# Altium schematic symbol library sch.SchLib: 60 symbols
Pins are listed as number, name and electrical type; pins without a type are passive.

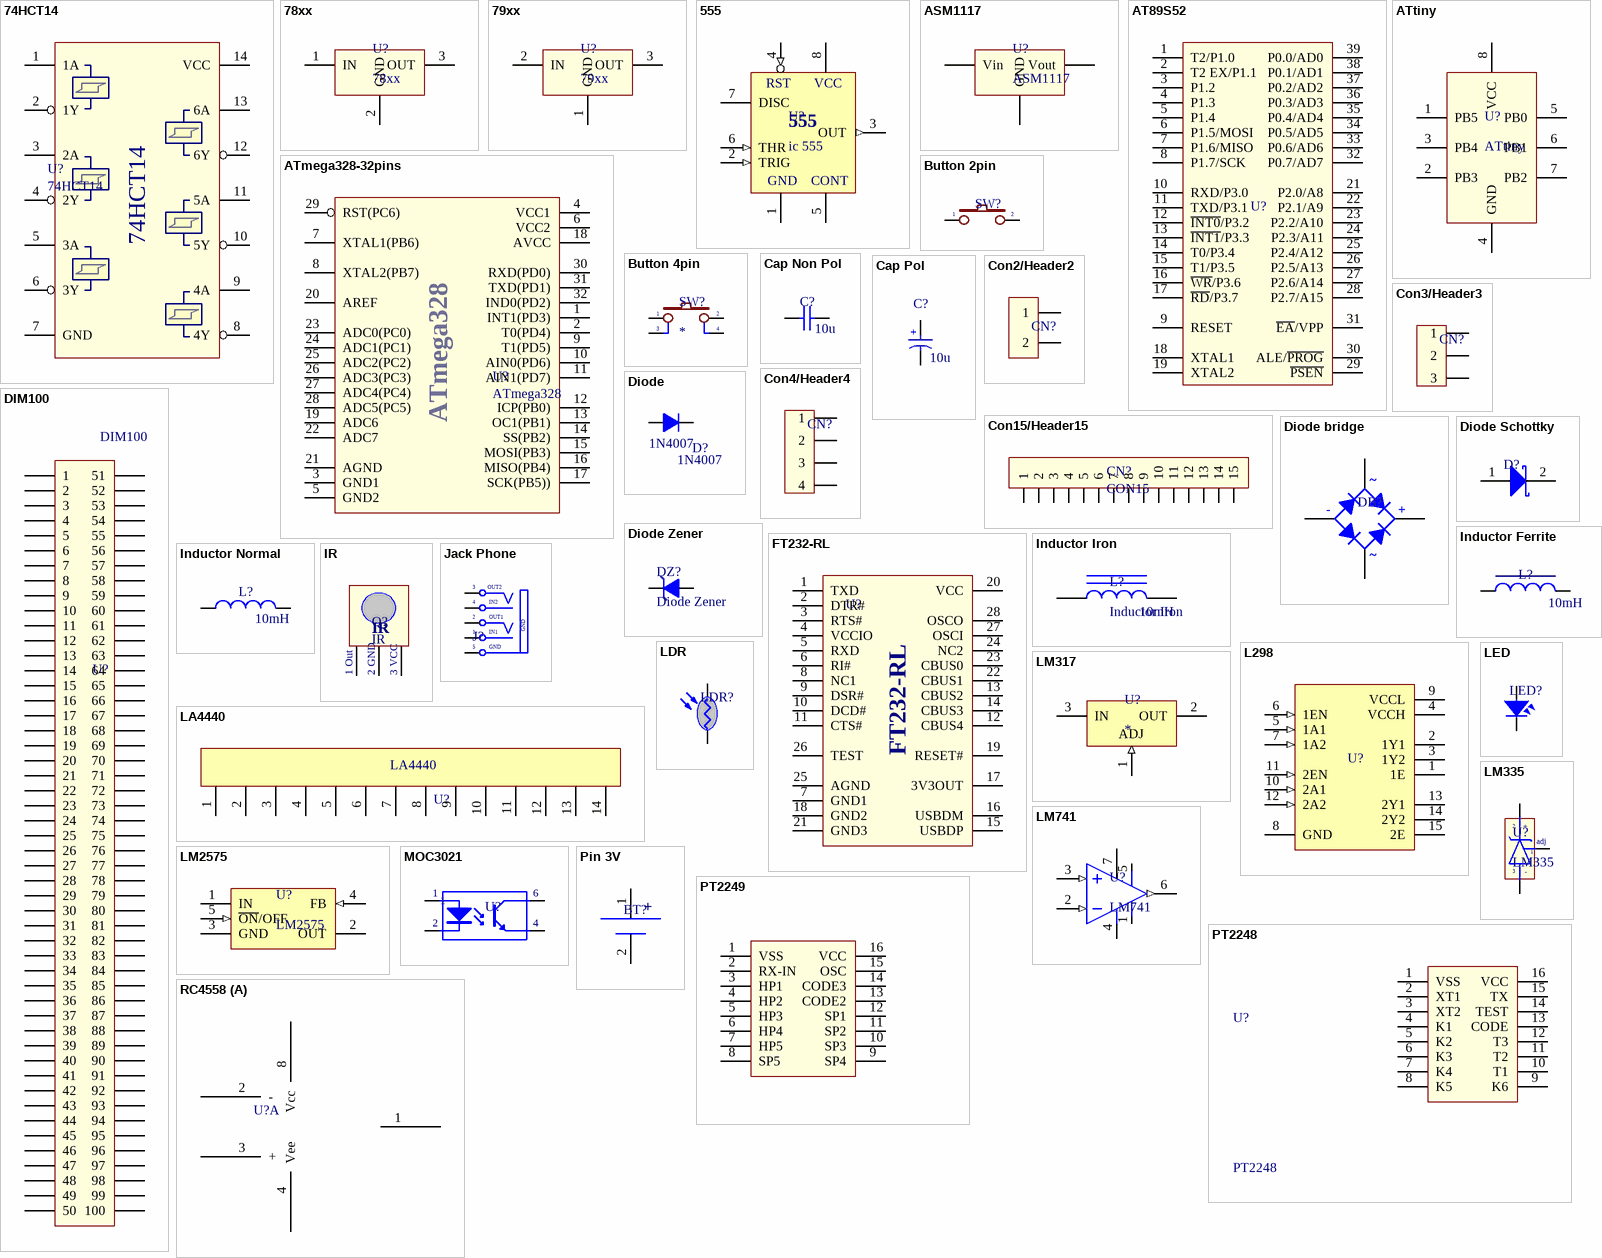
[diagram p0: symbols 74HCT14 to RC4558]

## 74HCT14
designator U?
Hex Inverting Schmitt Trigger
pins: 1 1A, 2 1Y, 3 2A, 4 2Y, 5 3A, 6 3Y, 7 GND, 8 4Y, 9 4A, 10 5Y, 11 5A, 12 6Y, 13 6A, 14 VCC

## 78xx
designator U?
LM78xx, on ap +
footprint QTO-220 (TO-220 - 1-2-3)
footprint QTO-220H3 (TO-220 1-2-3)
footprint QTO-220NH (TO-220 - 1-2-3)
footprint QTO-220H2 (TO-220 - 1-2-3)
footprint QTO-220H1 (TO-220 - 1-2-3)
footprint SOT-223 (SOT223, 4-Leads, Body 6.50x7.00mm Pitch 2.30mm)
pins: 1 IN, 2 GND, 3 OUT

## 79xx
designator U?
LM79xx, on ap -
footprint QTO-220H3 (TO-220 1-2-3)
footprint QTO-220 (TO-220 - 1-2-3)
footprint QTO-220NH (TO-220 - 1-2-3)
footprint QTO-220H2 (TO-220 - 1-2-3)
footprint QTO-220H1 (TO-220 - 1-2-3)
pins: 1 GND, 2 IN, 3 OUT

## 555
designator U?, comment ic 555
IC555 (DIP8/W0.3)
footprint DIP8/W0.3 (8 PIN, W 300mil, pitch=100mil)
pins: 1 GND (power), 2 TRIG (in), 3 OUT (out), 4 RST (in), 5 CONT, 6 THR (in), 7 DISC (oc), 8 VCC (power)

## ASM1117
designator U?
footprint SOT-223 (SOT223, 4-Leads, Body 6.50x7.00mm Pitch 2.30mm)
pins: 1 GND, 2 Vout, 3 Vin

## AT89S52
designator U?  (value not drawn)
AT89S52, 8kB memory flash, 40 pins
footprint DIP40/W0.6 (40 PIN, W 600mil, Pin to pin 100mil)
pins: 1 T2/P1.0, 2 T2 EX/P1.1, 3 P1.2, 4 P1.3, 5 P1.4, 6 P1.5/MOSI, 7 P1.6/MISO, 8 P1.7/SCK, 9 RESET, 10 RXD/P3.0, 11 TXD/P3.1, 12 ~{INT0}/P3.2, 13 ~{INT1}/P3.3, 14 T0/P3.4, 15 T1/P3.5, 16 ~{WR}/P3.6, 17 ~{RD}/P3.7, 18 XTAL1, 19 XTAL2, 21 P2.0/A8, 22 P2.1/A9, 23 P2.2/A10, 24 P2.3/A11, 25 P2.4/A12, 26 P2.5/A13, 27 P2.6/A14, 28 P2.7/A15, 29 ~{PSEN}, 30 ALE/~{PROG}, 31 ~{EA}/VPP, 32 P0.7/AD7, 33 P0.6/AD6, 34 P0.5/AD5, 35 P0.4/AD4, 36 P0.3/AD3, 37 P0.2/AD2, 38 P0.1/AD1, 39 P0.0/AD0

## ATmega328-32pins
designator U?, comment ATmega328
ATmega328-32PINS
footprint QFP (MS-026ABA) (QFP MS-026 32PINS)
pins: 1 INT1(PD3), 2 T0(PD4), 3 GND1, 4 VCC1, 5 GND2, 6 VCC2, 7 XTAL1(PB6), 8 XTAL2(PB7), 9 T1(PD5), 10 AIN0(PD6), 11 AIN1(PD7), 12 ICP(PB0), 13 OC1(PB1), 14 SS(PB2), 15 MOSI(PB3), 16 MISO(PB4), 17 SCK(PB5)), 18 AVCC, 19 ADC6, 20 AREF, 21 AGND, 22 ADC7, 23 ADC0(PC0), 24 ADC1(PC1), 25 ADC2(PC2), 26 ADC3(PC3), 27 ADC4(PC4), 28 ADC5(PC5), 29 RST(PC6), 30 RXD(PD0), 31 TXD(PD1), 32 IND0(PD2)

## ATtiny
designator U?
ATtiny13/45/85
footprint DIP8/W0.3 (8 PIN, W 300mil, pitch=100mil)
pins: 1 PB5, 2 PB3, 3 PB4, 4 GND, 5 PB0, 6 PB1, 7 PB2, 8 VCC

## Button 2pin
designator SW?  (value not drawn)
footprint Button (nut nhan 2pin)
pins: 1, 2

## Button 4pin
designator SW?
Button 4pin
footprint Button 4pin (nut nhan 4pin)
footprint BUTTON 4PINS SMD (BUTTON 4PINS SMD PITCH=5MM)
pins: 1, 2, 3, 4

## Cap Non Pol
designator C?, comment 10u
Cap Nol Pol; Volt: 16V; Value: 10u
footprint Cap Non Pol 3mm (d=3mm, pitch=0.1in)
footprint Cap Non Pol 5mm (d=5mm, pitch= 0.2in)
footprint Cap Non pol 8mm (d=8mm,pitch=0.3in)
footprint Cap Non Pol 0201
footprint Cap Non Pol 0402
footprint Cap Non Pol 0603
footprint Cap Non Pol 0805
footprint Cap Non Pol 1206
footprint Cap non Pol 1812
pins: 1, 2

## Cap Pol
designator C?, comment 10u
Cap Pol; Volt: 16v; Value: 10u
footprint Cap 10mm (Cap d=10mm, pitch=5mm)
footprint Cap 12mm (Cap d=12mm, pitch=5mm)
footprint Cap 16mm (Cap d=16mm, pitch=7.5mm)
footprint CAP 18mm (Cap pol d=18mm, pitch=7.5mm)
footprint Cap 4mm (Cap d=4mm, pitch=1.5mm)
footprint Cap 5mm (Cap d=5mm, pitch=2mm)
footprint Cap 8mm (Cap d=8mm, pitch=3.5mm)
footprint Cap 6.3mm (Cap d=6.3mm, pitch=2.5mm)
footprint Cap 20mm (Cap pol d=20mm, pitch=10mm)
footprint Cap 22mm (Cap pol d=22mm, pitch=10mm)
footprint Cap 25mm (Cap pol d=25mm, pitch=12.5mm)
pins: 1, 2
text: +

## Con2/Header2
designator CN?  (value not drawn)
CON2
footprint CON2-1 (2PIN THANG)
footprint CON2-2 (CON2 L)
footprint CON2-3 (CON2 BLOCK)
footprint Terminal Block2 (Terminal Blcok 2 position,pitch=5mm)
pins: 1, 2

## Con3/Header3
designator CN?  (value not drawn)
CON3
footprint CON3-1 (CON3 BLOCK)
footprint CON3-2 (CON3 THANG)
footprint CON3-3 (CON3 L)
footprint Terminal block 3 (Terminal block 3 position, pitch=5mm)
pins: 1, 2, 3

## Con4/Header4
designator CN?  (value not drawn)
CON4
footprint Terminal Block 4 (terminal block 4pos,pitch=5mm)
footprint CON4-3 (CON4 L)
footprint CON4-2 (CON4 THANG)
footprint CON4-1 (CON4 pin khuyet)
pins: 1, 2, 3, 4

## Con15/Header15
designator CN?, comment CON15
footprint CON15-1 (CON15 PIN THANG)
pins: 1, 2, 3, 4, 5, 6, 7, 8, 9, 10, 11, 12, 13, 14, 15

## DIM100
designator U?  (value not drawn)
footprint DIM100 (DIM100 (RAM))
pins: 1, 2, 3, 4, 5, 6, 7, 8, 9, 10, 11, 12, 13, 14, 15, 16, 17, 18, 19, 20, 21, 22, 23, 24, 25, 26, 27, 28, 29, 30, 31, 32, 33, 34, 35, 36, 37, 38, 39, 40, 41, 42, 43, 44, 45, 46, 47, 48, 49, 50, 51, 52, 53, 54, 55, 56, 57, 58, 59, 60, 61, 62, 63, 64, 65, 66, 67, 68, 69, 70, 71, 72, 73, 74, 75, 76, 77, 78, 79, 80, 81, 82, 83, 84, 85, 86, 87, 88, 89, 90, 91, 92, 93, 94, 95, 96, 97, 98, 99, 100

## Diode
designator D?, comment 1N4007
Diode; Value: 1N4007
footprint Diode (diode pitch = 450mil)
pins: 1 A, 2 K

## Diode bridge
designator DB?  (value not drawn)
footprint ZIP 4 (25A) (diode brigde 25A)
pins: 1 K, 2 C, 3 C, 4 A
text: ~; -; +

## Diode Schottky
designator D?, comment DIODE SCHOTTKY  (value not drawn)
footprint SOD123 (DIODE SOD123, PITCH=100 MILS)
pins: 1 A, 2 4

## Diode Zener
designator DZ?
footprint Diode zener (diode zener 1A)
pins: 1 A, 2 K

## FT232-RL
designator U?  (value not drawn)
USB to serial UART
footprint SSOP-28
pins: 1 TXD, 2 DTR#, 3 RTS#, 4 VCCIO, 5 RXD, 6 RI#, 7 GND1, 8 NC1, 9 DSR#, 10 DCD#, 11 CTS#, 12 CBUS4, 13 CBUS2, 14 CBUS3, 15 USBDP, 16 USBDM, 17 3V3OUT, 18 GND2, 19 RESET#, 20 VCC, 21 GND3, 22 CBUS1, 23 CBUS0, 24 NC2, 25 AGND, 26 TEST, 27 OSCI, 28 OSCO

## Inductor Ferrite
designator L?  value 10mH  (hidden comment: Inductor Ferrite)
pins: 1, 2

## Inductor Iron
designator L?  value 10mH
Magnetic-Core Inductor
pins: 1, 2

## Inductor Normal
designator L?  value 10mH  (hidden comment: Inductor Normal)
pins: 1, 2

## IR
designator Q?
mat thu hongngoai
footprint IR (mat thu hong ngoai)
pins: 1 Out, 2 GND, 3 VCC
text: 1 Out; 2 GND; 3 VCC

## Jack Phone
designator J?  (value not drawn)
Jac Phone Stereo; Creat by: VanDungEvn@Gmail.com
footprint Jack Phone (Jac Phone Stereo)
pins: 1 S1 (power) "Sleeve (Ground)", 2 S1 "Tip Normal (Break Contact)", 3 TN "Tip Normal (Break Contact)", 4 S (power) "Sleeve (Ground)", 5 GND "Tip"
text: OUT2; IN2; OUT1; IN1

## L298
designator U?  (value not drawn)
L298 CAU H
footprint DIP15SL2 (TO, Thru-Hole, Vertical, Heatsink Mounted; 15 Bent Staggered Leads; Pitch 1.27 mm)
pins: 1 1E, 2 1Y1 (hiz), 3 1Y2 (hiz), 4 VCCH (power), 5 1A1 (in), 6 1EN (in), 7 1A2 (in), 8 GND (power), 9 VCCL (power), 10 2A1 (in), 11 2EN (in), 12 2A2 (in), 13 2Y1 (hiz), 14 2Y2 (hiz), 15 2E

## LA4440
designator U?  (value not drawn)
footprint SIP-14 (SIP-14, pitch = 100mil)
pins: 1, 2, 3, 4, 5, 6, 7, 8, 9, 10, 11, 12, 13, 14

## LDR
designator LDR?  (value not drawn)
Quang Tro
footprint LDR (QUANG TRO)
pins: 1 A, 2 K

## LED
designator LED?  (value not drawn)
footprint LED-3mm 2Colour
footprint LED-3mm White
footprint LED-5mm 2colour
footprint LED-5mm BLUE
footprint LED-5mm Green
footprint LED-5mm RED
footprint LED-5mm WHITE
footprint LED-5mm Yellow
footprint LED-0805-Blue
footprint LED-0805-Green
footprint LED-0805-Orange
footprint LED-0805-Red
footprint LED-0805-Yellow
footprint LED-1206-Blue
footprint LED-1206-Green
footprint LED-1206-Orange
footprint LED-1206-Red
footprint LED-1206-Yellow
pins: 1, 2

## LM317
designator U?
LM317, adj voltage
footprint QTO-220 (TO-220 - 1-2-3)
footprint QTO-220H1 (TO-220 - 1-2-3)
footprint QTO-220H2 (TO-220 - 1-2-3)
footprint QTO-220H3 (TO-220 1-2-3)
pins: 1 ADJ (in), 2 OUT (power), 3 IN (power)

## LM335
designator U?
footprint QTO-92 (TO-92)
pins: 1 adj, 2 +, 3 -

## LM741
designator U?
LM741 (DIP8/W0.3)
footprint DIP8/W0.3 (8 PIN, W 300mil, pitch=100mil)
pins: 1 Vos, 2 IN- (in), 3 IN+ (in), 4 -V, 5 Vos, 6 OUT (out), 7 +V

## LM2575
designator U?
pins: 1 IN (power), 2 OUT (power), 3 GND (power), 4 FB (in), 5 ~{ON}/OFF (in)

## MOC3021
designator U?  (value not drawn)
OPTO TRIAC
footprint DIP6/W0.3 (6 PIN, W 300mil, Pin to pin 100mil)
pins: 1 A "Anode", 2 K "Cathode", 4 E "Emitter", 6 C "Collector"

## Pin 3V
designator BT?, comment BATERY  (value not drawn)
PIN CMOS 3V
footprint CMOS (Khay pin CMOS)
pins: 1 +, 2 -

## PT2248
designator U?
Remote Control Tranmitter; Value: PT2248
footprint DIP16/W0.3 (16 PIN, W=300mil, Pitch=100mil)
pins: 1 VSS, 2 XT1, 3 XT2, 4 K1, 5 K2, 6 K3, 7 K4, 8 K5, 9 K6, 10 T1, 11 T2, 12 T3, 13 CODE, 14 TEST, 15 TX, 16 VCC

## PT2249
designator U?
Remote Control Receiver; Value: PT2249
footprint DIP16/W0.3 (16 PIN, W=300mil, Pitch=100mil)
pins: 1 VSS, 2 RX-IN, 3 HP1, 4 HP2, 5 HP3, 6 HP4, 7 HP5, 8 SP5, 9 SP4, 10 SP3, 11 SP2, 12 SP1, 13 CODE2, 14 CODE3, 15 OSC, 16 VCC

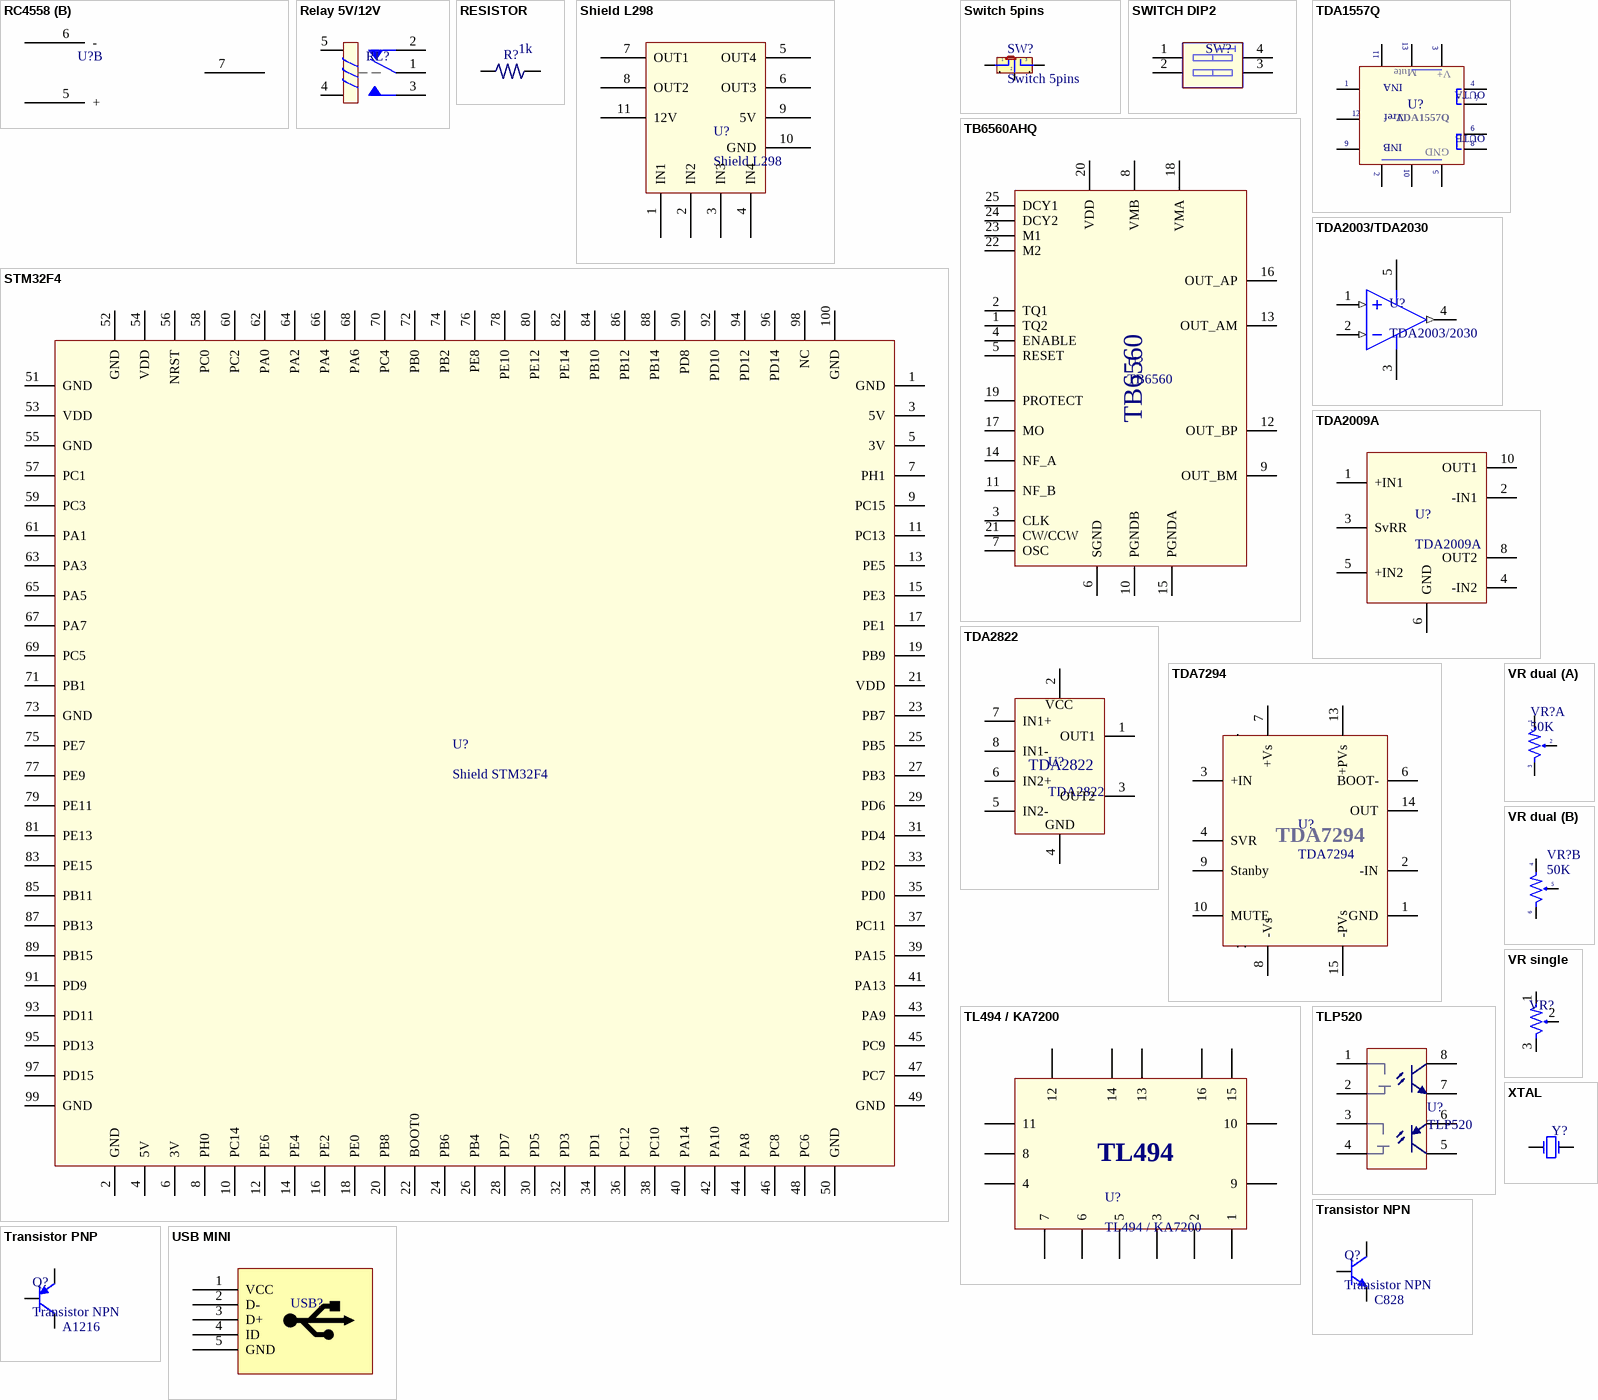
[diagram p1: symbols RC4558 to XTAL]

## RC4558
designator U?  (value not drawn)
RC4558, tone controller
footprint DIP8/W0.3 (8 PIN, W 300mil, pitch=100mil)
part A pins: 1, 2 -, 3 +, 4 Vee (power), 8 Vcc (power)
part B pins: 5 +, 6 -, 7

## Relay 5V/12V
designator RL?, comment RELAY  (value not drawn)
RELAY 5V/12V
footprint RELAY 5PIN (RELAY 5PIN 480MIL)
pins: 1, 2, 3, 4, 5

## RESISTOR
designator R?, comment 1k
RESISTOR; Walt: 1/4W; Value: 1k
footprint Resistor 0201
footprint Resistor 0402
footprint Resistor 0603
footprint Resistor 0805
footprint Resistor 1206
footprint Resistor 1812
footprint RESISTOR 1/8W (p=0.125w, pitch=7.6mm)
footprint RESISTOR 1/4W (P=0.25W, PITCH = 7.6 mm)
footprint RESISTOR 1/2W (P=0.5W, PITCH= 12.7mm)
footprint RESISTOR 1W (P=1W, ptich = 15.2mm)
footprint RESISTOR 2W (P=2W, pitch = 15.2mm)
footprint RESISTOR 5W (P=2W, pitch = 28mm)
pins: 1, 2

## Shield L298
designator U?
footprint Shield L298
pins: 1 IN1, 2 IN2, 3 IN3, 4 IN4, 5 OUT4, 6 OUT3, 7 OUT1, 8 OUT2, 9 5V, 10 GND, 11 12V

## STM32F4
designator U?, comment Shield STM32F4
footprint Shield STM32f4 (shield 100dim STM 32f4)
pins: 1 GND, 2 GND, 3 5V, 4 5V, 5 3V, 6 3V, 7 PH1, 8 PH0, 9 PC15, 10 PC14, 11 PC13, 12 PE6, 13 PE5, 14 PE4, 15 PE3, 16 PE2, 17 PE1, 18 PE0, 19 PB9, 20 PB8, 21 VDD, 22 BOOT0, 23 PB7, 24 PB6, 25 PB5, 26 PB4, 27 PB3, 28 PD7, 29 PD6, 30 PD5, 31 PD4, 32 PD3, 33 PD2, 34 PD1, 35 PD0, 36 PC12, 37 PC11, 38 PC10, 39 PA15, 40 PA14, 41 PA13, 42 PA10, 43 PA9, 44 PA8, 45 PC9, 46 PC8, 47 PC7, 48 PC6, 49 GND, 50 GND, 51 GND, 52 GND, 53 VDD, 54 VDD, 55 GND, 56 NRST, 57 PC1, 58 PC0, 59 PC3, 60 PC2, 61 PA1, 62 PA0, 63 PA3, 64 PA2, 65 PA5, 66 PA4, 67 PA7, 68 PA6, 69 PC5, 70 PC4, 71 PB1, 72 PB0, 73 GND, 74 PB2, 75 PE7, 76 PE8, 77 PE9, 78 PE10, 79 PE11, 80 PE12, 81 PE13, 82 PE14, 83 PE15, 84 PB10, 85 PB11, 86 PB12, 87 PB13, 88 PB14, 89 PB15, 90 PD8, 91 PD9, 92 PD10, 93 PD11, 94 PD12, 95 PD13, 96 PD14, 97 PD15, 98 NC, 99 GND, 100 GND

## Switch 5pins
designator SW?
footprint Switch 5pins
pins: 1, 2, 3, 4, 5

## SWITCH DIP2
designator SW?, comment SW DIP2  (value not drawn)
SW GAT DIP2
footprint SW DIP2 (SW GAT DIP2)
pins: 1 A1, 2 A2, 3 B2, 4 B1

## TB6560AHQ
designator U?, comment TB6560
TB6560 HZIP25
footprint H-ZIP-25 SMD
footprint H-ZIP-25 t.h (HZIP-25 (TB6560))
pins: 1 TQ2, 2 TQ1, 3 CLK, 4 ENABLE, 5 RESET, 6 SGND, 7 OSC, 8 VMB, 9 OUT_BM, 10 PGNDB, 11 NF_B, 12 OUT_BP, 13 OUT_AM, 14 NF_A, 15 PGNDA, 16 OUT_AP, 17 MO, 18 VMA, 19 PROTECT, 20 VDD, 21 CW/CCW, 22 M2, 23 M1, 24 DCY2, 25 DCY1

## TDA1557Q
designator U?  (value not drawn)
TDA1557Q (DIP13/S1)
footprint DIP13/S1 (13 Pins, w=200mil, Pitch=100mil)
pins: 1 IN1, 2 GND, 3 V+, 4 OUT1A, 5 GND, 6 OUT1B, 7 OUT2A, 8 OUT2B, 9 IN2, 10 GND, 11 Mute, 12 Vref, 13 V+
text: INA; OUTA; OUTB; INB

## TDA2003/TDA2030
designator U?, comment TDA2003/2030
TDA2003/2030 (DIP5SL1)
footprint DIP5SL1 (DIP5SL1 (TDA2003,)
pins: 1 IN+ (in), 2 IN- (in), 3 V- (power), 4 OUT (out), 5 V+ (power)

## TDA2009A
designator U?
TDA2009A (DIP11/S1)
footprint DIP11/S1 (11 Pins, w=200mil., pitch=100mil)
pins: 1 +IN1, 2 -IN1, 3 SvRR, 4 -IN2, 5 +IN2, 6 GND, 8 OUT2, 10 OUT1

## TDA2822
designator U?
TDA2822 (DIP8/W0.3)
footprint DIP8/W0.3 (8 PIN, W 300mil, pitch=100mil)
pins: 1 OUT1, 2 VCC, 3 OUT2, 4 GND "VCC", 5 IN2- "VCC", 6 IN2+ "VCC", 7 IN1+ "VCC", 8 IN1- "VCC"

## TDA7294
designator U?
TDA7294 (DIP15SL2)
footprint DIP15SL2 (TO, Thru-Hole, Vertical, Heatsink Mounted; 15 Bent Staggered Leads; Pitch 1.27 mm)
pins: 1 GND, 2 -IN, 3 +IN, 4 SVR, 5 NC, 6 BOOT-, 7 +Vs, 8 -Vs, 9 Stanby, 10 MUTE, 11 NC, 12 NC, 13 +PVs, 14 OUT, 15 -PVs

## TL494 / KA7200
designator U?
TL494/KA7200
footprint DIP16/W0.3 (16 PIN, W=300mil, Pitch=100mil)
pins: 1, 2, 3, 4, 5, 6, 7, 8, 9, 10, 11, 12, 13, 14, 15, 16
text: TL494

## TLP520
designator U?
OPTO
footprint DIP8/W0.3 (8 PIN, W 300mil, pitch=100mil)
pins: 1, 2, 3, 4, 5, 6, 7, 8

## Transistor NPN
designator Q?  value C828
Transistor NPN, doc chan tu bung
footprint BCE (Transistor BCE)
footprint BEC (Transistor BEC)
footprint CBE (Transistor CBE)
footprint CEB (Transistor CEB)
footprint EBC (Transistor EBC)
footprint ECB (Transistor ECB)
pins: 1 C, 2 B, 3 E

## Transistor PNP
designator Q?, comment Transistor NPN  value A1216
Transistor PNP, doc chan tu bung
footprint BCE (Transistor BCE)
footprint BEC (Transistor BEC)
footprint CBE (Transistor CBE)
footprint CEB (Transistor CEB)
footprint EBC (Transistor EBC)
footprint ECB (Transistor ECB)
pins: 1 C, 2 B, 3 E

## USB MINI
designator USB?  (value not drawn)
footprint USB MINI SMD
pins: 1 VCC, 2 D-, 3 D+, 4 ID, 5 GND

## VR dual
designator VR?, comment 50K
Volume control Dual; Value: Volume Dual 50K
footprint VR dual
part A pins: 1, 2, 3
part B pins: 4, 5, 6

## VR single
designator VR?  (value not drawn)
VR single
footprint VR-S Volume (VR don volume)
footprint VR-S C (VR don cuc ao)
pins: 1, 2, 3

## XTAL
designator Y?, comment CRYSTAL  (value not drawn)
footprint XTAL SMD 5X3.2 (XTAL SMD 5MMX3.2MM)
pins: 1 OSC1, 2 OSC2